# Altium schematic symbol library USB2514BM2.SchLib: 1 symbol
Pins are listed as number, name and electrical type; pins without a type are passive.

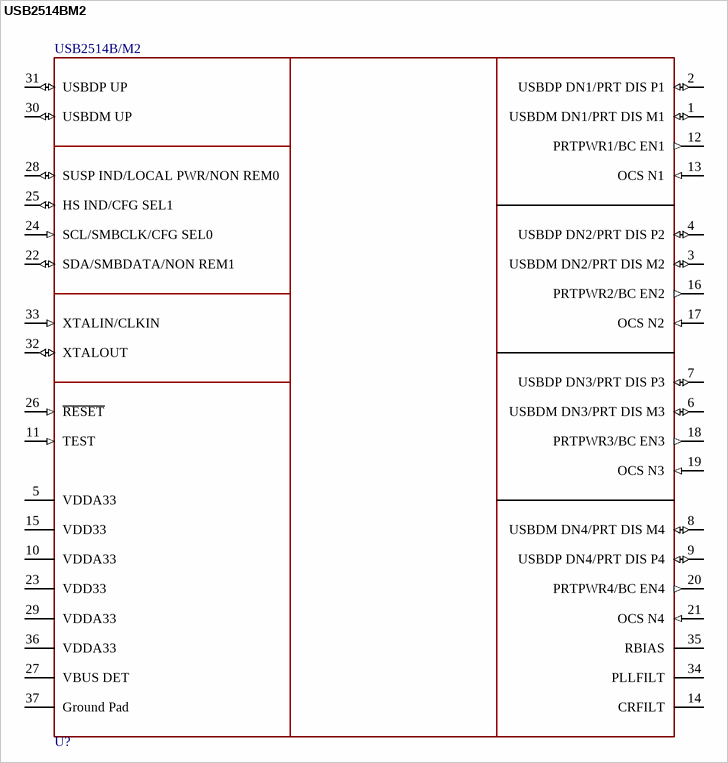
[diagram p0: symbol USB2514BM2]

## USB2514BM2
designator U?, comment USB2514B/M2
IC HUB CTLR 4PORT USB 2.0 HS 36S; Manufacturer: Microchip; Number Of Ports: 4; Standoff Height: 0mm; Nominal Supply Current: 35-70mA; Usb Standard: USB 2.0; Interface: I2C,USB,SMBus; Min Supply Voltage: 3V; Max Supply Voltage: 3.6V; Temperature Range Low: 0°C; Device Class L1: Integrated Circuits (ICs); Height: 1mm; Octopart: https://octopart.com/usb2514b%2Fm2-microchip-57152181; Temperature Range High: +85°C; Lead Free: Yes; Category: IC; RoHS: TRUE; Manufacturer Part Number: USB2514B/M2; Package: 36SQFN-3706-6x6B; Ipc Land Pattern Name: QFN50P600X600X90-36; Device Class L2: Interface ICs; Device Class L3: USB Interface ICs; Ambient Temperature Range Low: 0°C; Temperature: 0°C to +85°C; Ambient Temperature Range High: +85°C; Mouser Description: Low Speed/Full Speed/High Speed 7 Port Hub Controller USB 2.0 Tray 36-Pin SQFN EP; Digikey Description: IC HUB CTLR 4PORT USB 2.0 HS 36S; ComponentLink2URL: http://ww1.microchip.com/downloads/en/DeviceDoc/00001692C.pdf; ComponentLink2Description: Datasheet; Automotive: No
footprint FP-36SQFN-3706-6x6B-IPC_B
footprint FP-36SQFN-3706-6x6B-IPC_C
footprint FP-36SQFN-3706-6x6B-MFG
footprint FP-36SQFN-3706-6x6B-IPC_A
pins: 1 USBDM DN1/PRT DIS M1 (io), 2 USBDP DN1/PRT DIS P1 (io), 3 USBDM DN2/PRT DIS M2 (io), 4 USBDP DN2/PRT DIS P2 (io), 5 VDDA33 (power), 6 USBDM DN3/PRT DIS M3 (io), 7 USBDP DN3/PRT DIS P3 (io), 8 USBDM DN4/PRT DIS M4 (io), 9 USBDP DN4/PRT DIS P4 (io), 10 VDDA33 (power), 11 TEST (in), 12 PRTPWR1/BC EN1 (out), 13 OCS N1 (in), 14 CRFILT, 15 VDD33 (oe), 16 PRTPWR2/BC EN2 (out), 17 OCS N2 (in), 18 PRTPWR3/BC EN3 (out), 19 OCS N3 (in), 20 PRTPWR4/BC EN4 (out), 21 OCS N4 (in), 22 SDA/SMBDATA/NON REM1 (io), 23 VDD33 (power), 24 SCL/SMBCLK/CFG SEL0 (in), 25 HS IND/CFG SEL1 (io), 26 ~{RESET} (in), 27 VBUS DET (power), 28 SUSP IND/LOCAL PWR/NON REM0 (io), 29 VDDA33 (power), 30 USBDM UP (io), 31 USBDP UP (io), 32 XTALOUT (io), 33 XTALIN/CLKIN (in), 34 PLLFILT, 35 RBIAS, 36 VDDA33 (power), 37 Ground Pad (power)